# EAGLE library part PINHEADER_2X04 (library aobotelhoLibrary)
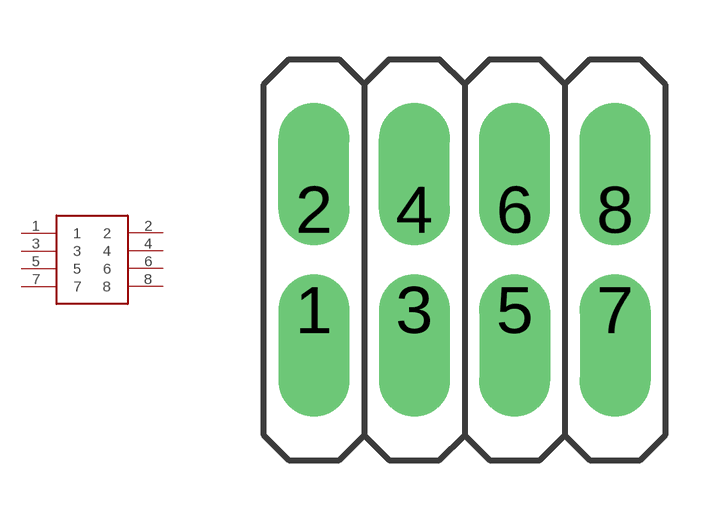
[diagram p6: symbol with the pads of PINHEADER_2X04; footprint PINHEADER_2X04]

Designator prefix -

## PINHEADER_2X04  [PINHEADER_2X04]
1  1
2  2
3  3
4  4
5  5
6  6
7  7
8  8

## Footprint PINHEADER_2X04 (pad centres in mm)
drill 1.2 offset: 1 -3.81,-1.27; 2 -3.81,1.27; 3 -1.27,-1.27; 4 -1.27,1.27; 5 1.27,-1.27; 6 1.27,1.27; 7 3.81,-1.27; 8 3.81,1.27